# Altium schematic symbol library ElectromagneticPositioning.SCHLIB: 21 symbols
Pins are listed as number, name and electrical type; pins without a type are passive.

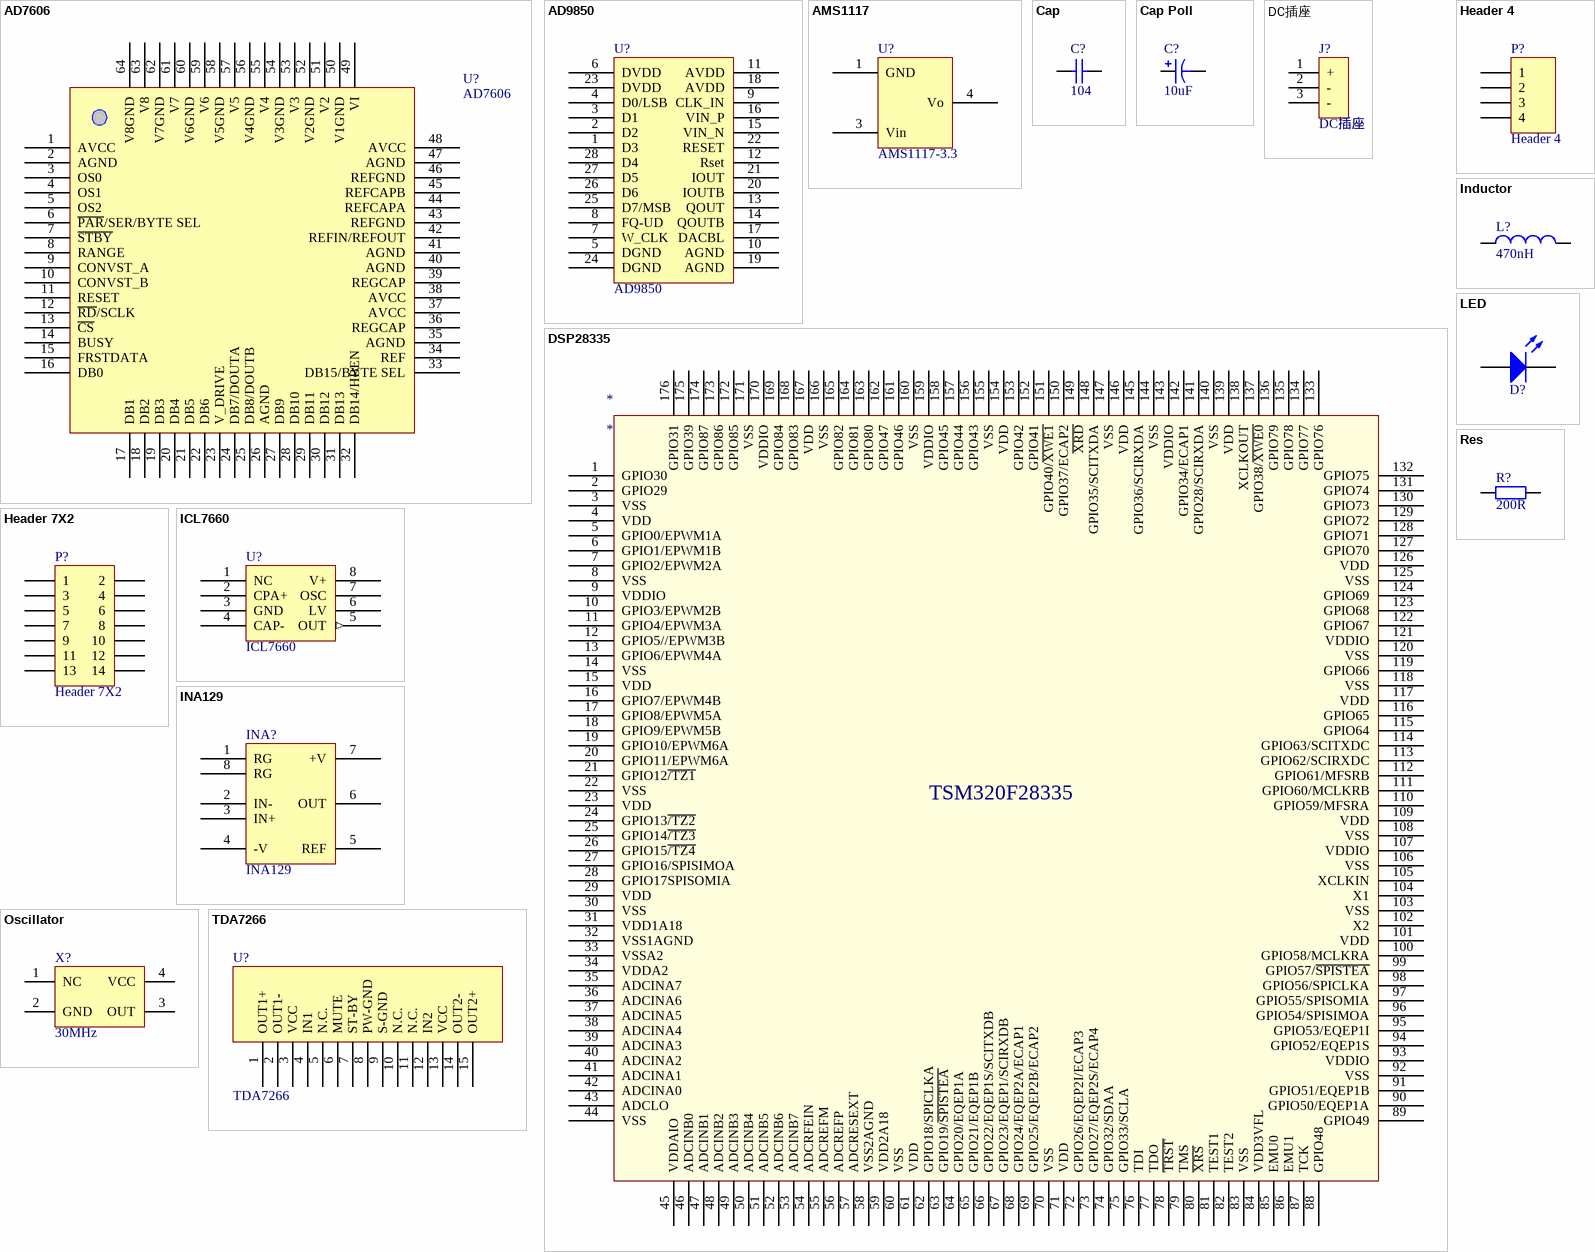
[diagram p0: symbols AD7606 to TDA7266]

## AD7606
designator U?
footprint TSQFP50P1200X1200X160-64N (TSQFP, 64-Leads, Body 10.00x10.00mm, Pitch 0.50mm, IPC Medium Density)
pins: 1 AVCC, 2 AGND, 3 OS0, 4 OS1, 5 OS2, 6 ~{PAR}/SER/BYTE SEL, 7 ~{STBY}, 8 RANGE, 9 CONVST_A, 10 CONVST_B, 11 RESET, 12 ~{RD}/SCLK, 13 ~{CS}, 14 BUSY, 15 FRSTDATA, 16 DB0, 17 DB1, 18 DB2, 19 DB3, 20 DB4, 21 DB5, 22 DB6, 23 V_DRIVE, 24 DB7/DOUTA, 25 DB8/DOUTB, 26 AGND, 27 DB9, 28 DB10, 29 DB11, 30 DB12, 31 DB13, 32 DB14/HBEN, 33 DB15/BYTE SEL, 34 REF, 35 AGND, 36 REGCAP, 37 AVCC, 38 AVCC, 39 REGCAP, 40 AGND, 41 AGND, 42 REFIN/REFOUT, 43 REFGND, 44 REFCAPA, 45 REFCAPB, 46 REFGND, 47 AGND, 48 AVCC, 49 VI, 50 V1GND, 51 V2, 52 V2GND, 53 V3, 54 V3GND, 55 V4, 56 V4GND, 57 V5, 58 V5GND, 59 V6, 60 V6GND, 61 V7, 62 V7GND, 63 V8, 64 V8GND

## AD9850
designator U?
footprint SOP65P780X198-28N (SOP, 28-Leads, Body 10.21x5.29mm, Pitch 0.65mm, IPC Medium Density)
pins: 1 D3, 2 D2, 3 D1, 4 D0/LSB, 5 DGND, 6 DVDD, 7 W_CLK, 8 FQ-UD, 9 CLK_IN, 10 AGND (power), 11 AVDD, 12 Rset, 13 QOUT, 14 QOUTB, 15 VIN_N, 16 VIN_P, 17 DACBL, 18 AVDD, 19 AGND, 20 IOUTB, 21 IOUT, 22 RESET, 23 DVDD, 24 DGND, 25 D7/MSB, 26 D6, 27 D5, 28 D4

## AMS1117
designator U?, comment AMS1117-3.3
footprint SOT223 (SOT223, 4-Leads, Body 6.50x7.00mm (avg), Pitch 2.30mm, IPC Low Density)
footprint TO-252-2L
pins: 1 GND, 3 Vin, 4 Vo

## Cap
designator C?  value 104  (hidden comment: Cap)
原理图绘制者: 刘永钦; 原理图何处使用过: 2014年飞思卡尔底板; 原理图审核人1: 徐鹏飞; 封装0805何处使用: 2015年航行器遥控器; 原理图审核人2: 朱觉文; 封装0603何处使用过: 在2401转接板上使用; Pressure Voltage: 16V; 原理图提供者: 刘永钦; 封装0805绘制者: 刘永钦; 封装0805提供者: 刘永钦; 封装0805审核人1: 徐鹏飞; 封装0805审核人2: 朱觉文; 封装0603绘制者: 刘永钦; 封装0603提供者: 刘永钦; 封装0603审核人1: 朱觉文; 封装0603审核人2: 徐鹏飞
footprint 0805 (Chip Capacitor, 2-Leads, Body 2.0x1.3mm, IPC Medium Density)
footprint 0603
pins: 1, 2

## Cap Poll
designator C?  value 10uF  (hidden comment: Cap Poll)
原理图绘制者: 刘永钦; 原理图何处使用过: 2014年飞思卡尔底板; 原理图审核人1: 徐鹏飞; 封装CAP 钽 7343 E何处使用: 2014年飞思卡尔驱动板; 封装cap贴片铝电解质470uF 16V绘制者: 李泽; 封装cap贴片铝电解质470uF 16V何处使用: 2015年飞思卡尔主板; 封装Cap 3528B绘制者: 陈汉诚; 封装Cap 3528B使用过: 2015年飞思卡尔驱动板; 封装Cap直插 10uF 50V: 10级718学长; 封装Cap直插 10uF 50V使用过: 2012年XS128学习板的主板; 封装Cap 3528B审核人2: 朱觉文; Pressure Voltage: 16V; 原理图提供者: 刘永钦; 封装CAP 钽 7343 E绘制者: 刘永钦; 封装CAP 钽 7343 E提供者: 刘永钦; 封装CAP 钽 7343 E审核人1: 徐鹏飞; 封装cap贴片铝电解质470uF 16V提供者: 刘永钦; 封装cap贴片铝电解质470uF 16V审核人1: 徐鹏飞; 封装Cap 3528B提供者: 刘永钦; 封装Cap 3528B审核人1: 徐鹏飞; 封装Cap直插 10uF 50V提供者: 刘永钦; 封装Cap直插 10uF 50V审核人1: 徐鹏飞; 封装Cap直插 10uF 50V审核人2: 朱觉文; 封装cap贴片铝电解质470uF 16V审核人2: 朱觉文; 封装CAP 钽 7343 E审核人2: 朱觉文; 原理图审核人2: 朱觉文
footprint cap贴片铝电解质470uF 16V (铝电解质 470uF V)
footprint Cap 3528B
footprint Cap直插 10uF 50V
footprint CAP 钽 7343 E (Molded Capacitor, 2-Leads, Body 7.3x4.3mm, IPC Medium Density)
pins: 1, 2

## DC插座
designator J?
原理图审核人2: 朱觉文; 原理图提供者: 刘永钦; 原理图审核人1: 徐鹏飞; 原理图何处使用过: Arduino小车控制板; 原理图绘制者: 刘永钦; 封装DC插座 5.5mm*2.1mm绘制者: 刘永钦; 封装DC插座 5.5mm*2.1mm提供者: 刘永钦; 封装DC插座 5.5mm*2.1mm审核人1: 徐鹏飞; 封装DC插座 5.5mm*2.1mm何处使用过: Arduino小车控制板; 封装DC插座 5.5mm*2.1mm审核人2: 朱觉文
footprint DC插座 5.5mm*2.1mm
pins: 1 + (power), 2 - (power), 3 - (power)

## DSP28335
designator *
pins: 1 GPIO30, 2 GPIO29, 3 VSS, 4 VDD, 5 GPIO0/EPWM1A, 6 GPIO1/EPWM1B, 7 GPIO2/EPWM2A, 8 VSS, 9 VDDIO, 10 GPIO3/EPWM2B, 11 GPIO4/EPWM3A, 12 GPIO5//EPWM3B, 13 GPIO6/EPWM4A, 14 VSS, 15 VDD, 16 GPIO7/EPWM4B, 17 GPIO8/EPWM5A, 18 GPIO9/EPWM5B, 19 GPIO10/EPWM6A, 20 GPIO11/EPWM6A, 21 GPIO12~{/TZ1}, 22 VSS, 23 VDD, 24 GPIO13~{/TZ2}, 25 GPIO14~{/TZ3}, 26 GPIO15~{/TZ4}, 27 GPIO16/SPISIMOA, 28 GPIO17SPISOMIA, 29 VDD, 30 VSS, 31 VDD1A18, 32 VSS1AGND, 33 VSSA2, 34 VDDA2, 35 ADCINA7, 36 ADCINA6, 37 ADCINA5, 38 ADCINA4, 39 ADCINA3, 40 ADCINA2, 41 ADCINA1, 42 ADCINA0, 43 ADCLO, 44 VSS, 45 VDDAIO, 46 ADCINB0, 47 ADCINB1, 48 ADCINB2, 49 ADCINB3, 50 ADCINB4, 51 ADCINB5, 52 ADCINB6, 53 ADCINB7, 54 ADCRFEIN, 55 ADCREFM, 56 ADCREFP, 57 ADCRESEXT, 58 VSS2AGND, 59 VDD2A18, 60 VSS, 61 VDD, 62 GPIO18/SPICLKA, 63 GPIO19/~{SPISTEA}, 64 GPIO20/EQEP1A, 65 GPIO21/EQEP1B, 66 GPIO22/EQEP1S/SCITXDB, 67 GPIO23/EQEP1/SCIRXDB, 68 GPIO24/EQEP2A/ECAP1, 69 GPIO25/EQEP2B/ECAP2, 70 VSS, 71 VDD, 72 GPIO26/EQEP2I/ECAP3, 73 GPIO27/EQEP2S/ECAP4, 74 GPIO32/SDAA, 75 GPIO33/SCLA, 76 TDI, 77 TDO, 78 ~{TRST}, 79 TMS, 80 ~{XRS}, 81 TEST1, 82 TEST2, 83 VSS, 84 VDD3VFL, 85 EMU0, 86 EMU1, 87 TCK, 88 GPIO48, 89 GPIO49, 90 GPIO50/EQEP1A, 91 GPIO51/EQEP1B, 92 VSS, 93 VDDIO, 94 GPIO52/EQEP1S, 95 GPIO53/EQEP1I, 96 GPIO54/SPISIMOA, 97 GPIO55/SPISOMIA, 98 GPIO56/SPICLKA, 99 GPIO57/~{SPI}~{STEA}, 100 GPIO58/MCLKRA, 101 VDD, 102 X2, 103 VSS, 104 X1, 105 XCLKIN, 106 VSS, 107 VDDIO, 108 VSS, 109 VDD, 110 GPIO59/MFSRA, 111 GPIO60/MCLKRB, 112 GPIO61/MFSRB, 113 GPIO62/SCIRXDC, 114 GPIO63/SCITXDC, 115 GPIO64, 116 GPIO65, 117 VDD, 118 VSS, 119 GPIO66, 120 VSS, 121 VDDIO, 122 GPIO67, 123 GPIO68, 124 GPIO69, 125 VSS, 126 VDD, 127 GPIO70, 128 GPIO71, 129 GPIO72, 130 GPIO73, 131 GPIO74, 132 GPIO75, 133 GPIO76, 134 GPIO77, 135 GPIO78, 136 GPIO79, 137 GPIO38/~{XWE0}, 138 XCLKOUT, 139 VDD, 140 VSS, 141 GPIO28/SCIRXDA, 142 GPIO34/ECAP1, 143 VDDIO, 144 VSS, 145 GPIO36/SCIRXDA, 146 VDD, 147 VSS, 148 GPIO35/SCITXDA, 149 ~{XRD}, 150 GPIO37/ECAP2, 151 GPIO40/~{XWE1}, 152 GPIO41, 153 GPIO42, 154 VDD, 155 VSS, 156 GPIO43, 157 GPIO44, 158 GPIO45, 159 VDDIO, 160 VSS, 161 GPIO46, 162 GPIO47, 163 GPIO80, 164 GPIO81, 165 GPIO82, 166 VSS, 167 VDD, 168 GPIO83, 169 GPIO84, 170 VDDIO, 171 VSS, 172 GPIO85, 173 GPIO86, 174 GPIO87, 175 GPIO39, 176 GPIO31
text: TSM320F28335

## Header 4
designator P?
Header, 4-Pin; LatestRevisionDate: 17-Jul-2002; LatestRevisionNote: Re-released for DXP Platform.; Publisher: Altium Limited
footprint HDR1X4 (Connector; Header; 4 Position)
signal-integrity model Connector
pins: 1, 2, 3, 4

## Header 7X2
designator P?
Header, 7-Pin, Dual row; LatestRevisionDate: 17-Jul-2002; LatestRevisionNote: Re-released for DXP Platform.; Publisher: Altium Limited
footprint HDR2X7 (Connector; Header; 7x2 Position)
signal-integrity model Connector
pins: 1, 2, 3, 4, 5, 6, 7, 8, 9, 10, 11, 12, 13, 14

## ICL7660
designator U?
原理图绘制者: 刘永钦; 原理图何处使用过: 2014年飞思卡尔底板; 原理图审核人1: 徐鹏飞; 封装ICL7660 sop-8使用过: 2014年飞思卡尔地板; 原理图审核人2: 朱觉文; 原理图提供者: 刘永钦; 封装ICL7660 sop-8绘制者: 刘永钦; 封装ICL7660 sop-8审核人1: 徐鹏飞; 封装ICL7660 sop-8提供者: 刘永钦; 封装ICL7660 sop-8审核人2: 朱觉文
footprint ICL7660 sop-8
pins: 1 NC, 2 CPA+, 3 GND (power), 4 CAP-, 5 OUT (out), 6 LV, 7 OSC, 8 V+ (power)

## INA129
designator INA?
footprint LM386
pins: 1 RG, 2 IN-, 3 IN+, 4 -V, 5 REF, 6 OUT, 7 +V, 8 RG

## Inductor
designator L?, comment 470nH
footprint 0805L
footprint CDRH127
footprint CDRH104R
footprint SWPA5040S
footprint CDRH74
pins: 1, 2

## LED
designator D?  (value not drawn)
原理图绘制者: 刘永钦; 原理图何处使用过: 2014年飞思卡尔底板; 原理图审核人1: 徐鹏飞; Color: 蓝色; 封装1210LED何处使用过: 2014年的一个小板子; 封装LED_3mm何处使用过: 2014年变频器面板; 封装LED_0805使用过: 2015年飞思卡尔底板; 原理图审核人2: 朱觉文; 封装LED0603何处使用过: 2401转接板; 原理图提供者: 刘永钦; 封装1210LED绘制者: 刘永钦; 封装1210LED提供者: 刘永钦; 封装1210LED审核人1: 徐鹏飞; 封装LED_3mm绘制者: 刘永钦; 封装LED_3mm提供者: 刘永钦; 封装LED_0805绘制者: 刘永钦; 封装LED_0805提供者: 刘永钦; 封装LED_0805审核人1: 徐鹏飞; 封装1210LED审核人2: 朱觉文; 封装LED_0805审核人2: 朱觉文; 封装LED_3mm审核者2: 朱觉文; 封装LED0603绘制者: 刘永钦; 封装LED0603审核人2: 朱觉文; 封装LED0603提供者: 刘永钦; 封装LED0603审核人1: 徐鹏飞
footprint 1210LED
footprint LED_0805
footprint LED_3mm
footprint LED0603
pins: 1 A, 2 K

## Oscillator
designator X?, comment 30MHz
footprint 3225 (3225有源晶振)
pins: 1 NC, 2 GND, 3 OUT, 4 VCC

## Res
designator R?  value 200R  (hidden comment: Res)
原理图绘制者: 刘永钦; 原理图何处使用过: 2014年飞思卡尔底板; 原理图审核人1: 徐鹏飞; 封装0805何处使用过: 2015年航行器遥控器; 原理图审核人2: 朱觉文; 封装2512-RESC6332X06N何处使用过: 在无刷直流电机驱动板上使用过; 封装0603何处使用过: 在2401转接板上使用; 原理图提供者: 刘永钦; 封装0805绘制者: 刘永钦; 封装0805提供者: 刘永钦; 封装0805审核人1: 徐鹏飞; 封装0805审核人2: 朱觉文; 封装0603提供者: 刘永钦; 封装0603审核人2: 朱觉文; 封装0603审核人1: 徐鹏飞; 封装2512-RESC6332X06N审核人2: 朱觉文; 封装2512-RESC6332X06N提供者: 刘永钦; 封装2512-RESC6332X06N审核人1: 徐鹏飞; 封装0603绘制者: 刘永钦; 封装2512-RESC6332X06N绘制者: 刘永钦
footprint 0805 (Chip Capacitor, 2-Leads, Body 2.0x1.3mm, IPC Medium Density)
footprint 1206
footprint 0603
footprint 2512-RESC6332X06N (Chip Resistor, 2-Leads, Body 6.3x3.2mm, IPC Medium Density)
pins: 1, 2

## TDA7266
designator U?
footprint TDA7266
pins: 1 OUT1+, 2 OUT1-, 3 VCC, 4 IN1, 5 N.C., 6 MUTE, 7 ST-BY, 8 PW-GND, 9 S-GND, 10 N.C., 11 N.C., 12 IN2, 13 VCC, 14 OUT2-, 15 OUT2+

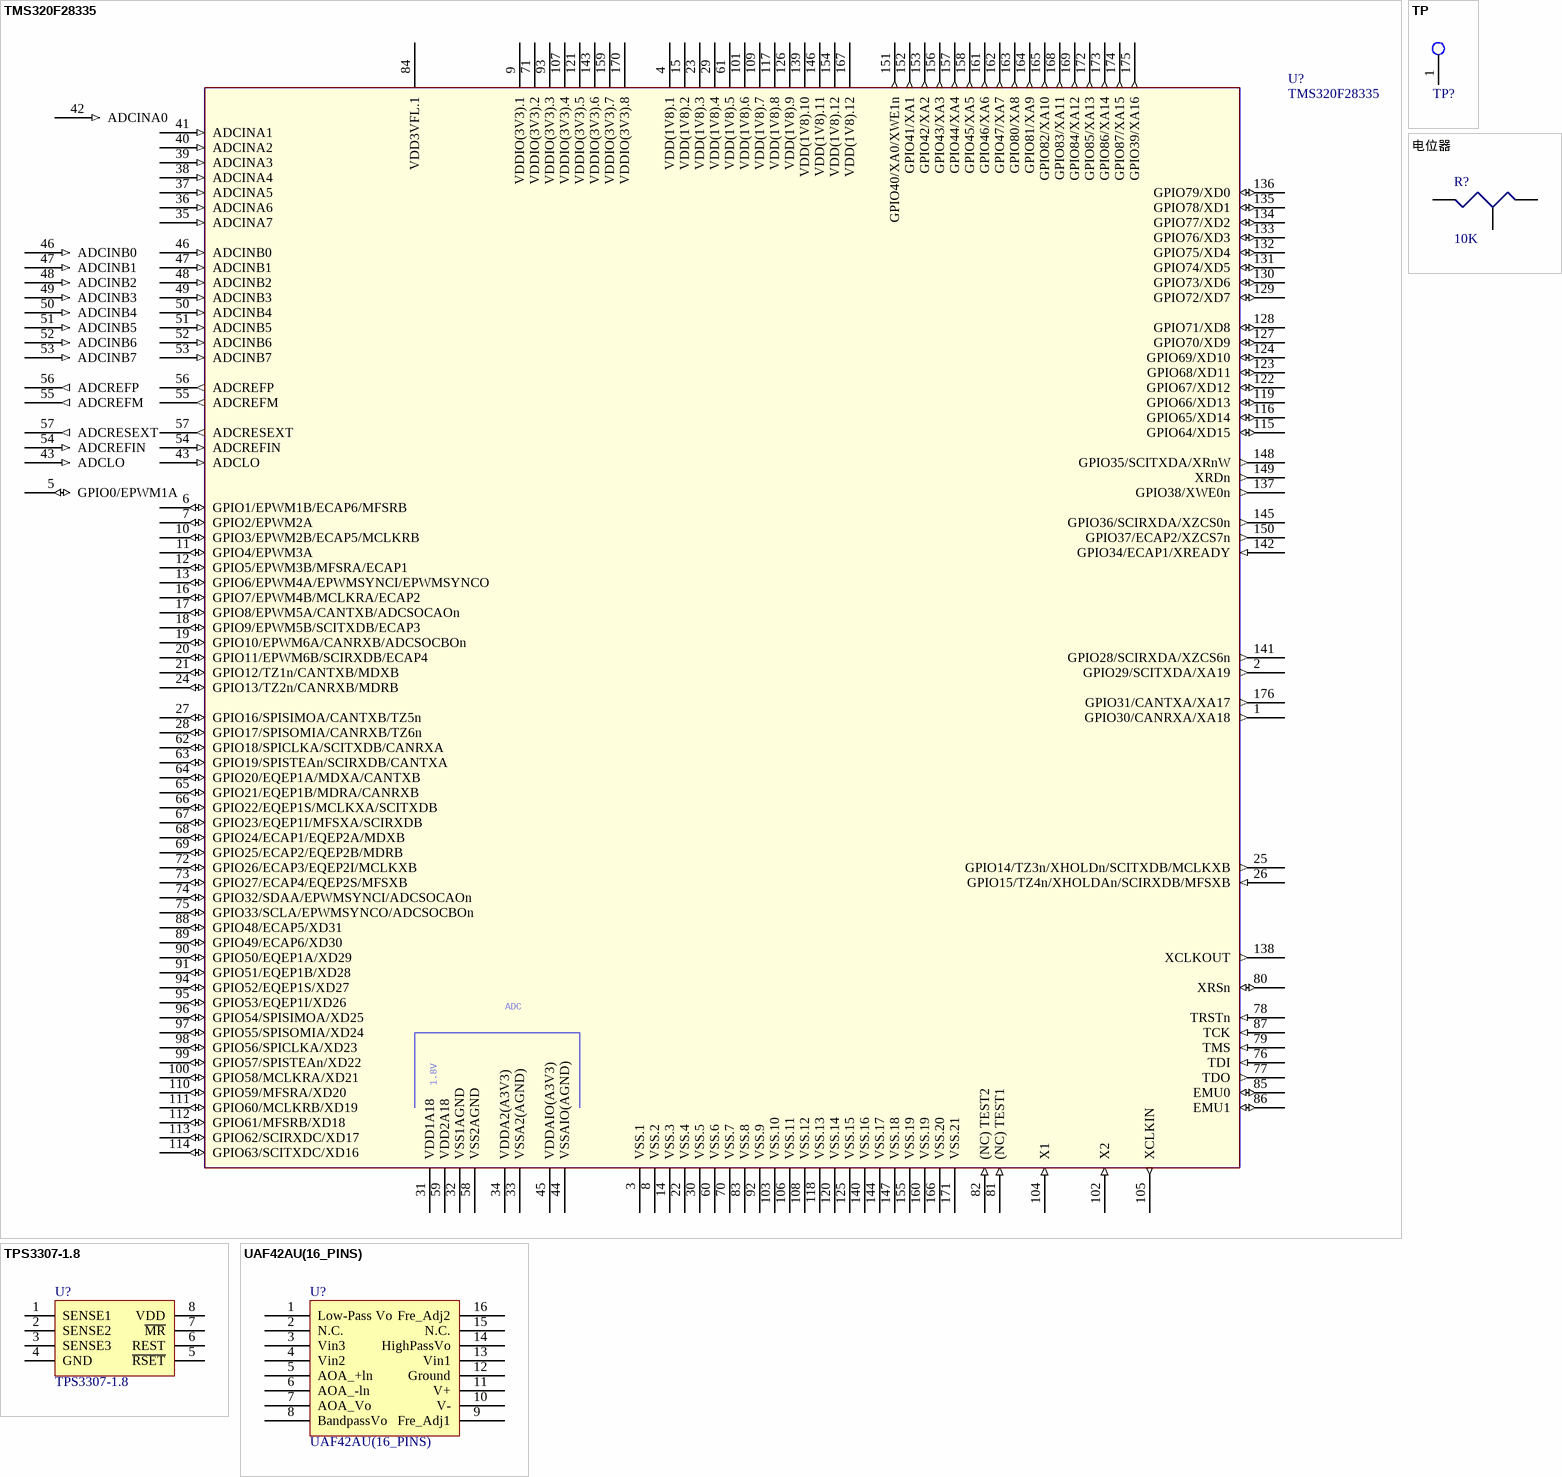
[diagram p1: symbols TMS320F28335 to 电位器]

## TMS320F28335
designator U?
footprint TMS320F28335
pins: 1 GPIO30/CANRXA/XA18 (out), 2 GPIO29/SCITXDA/XA19 (out), 3 VSS.1 (power), 4 VDD(1V8).1 (power), 5 GPIO0/EPWM1A (io), 6 GPIO1/EPWM1B/ECAP6/MFSRB (io), 7 GPIO2/EPWM2A (io), 8 VSS.2 (power), 9 VDDIO(3V3).1 (power), 10 GPIO3/EPWM2B/ECAP5/MCLKRB (io), 11 GPIO4/EPWM3A (io), 12 GPIO5/EPWM3B/MFSRA/ECAP1 (io), 13 GPIO6/EPWM4A/EPWMSYNCI/EPWMSYNCO (io), 14 VSS.3 (power), 15 VDD(1V8).2 (power), 16 GPIO7/EPWM4B/MCLKRA/ECAP2 (io), 17 GPIO8/EPWM5A/CANTXB/ADCSOCAOn (io), 18 GPIO9/EPWM5B/SCITXDB/ECAP3 (io), 19 GPIO10/EPWM6A/CANRXB/ADCSOCBOn (io), 20 GPIO11/EPWM6B/SCIRXDB/ECAP4 (io), 21 GPIO12/TZ1n/CANTXB/MDXB (io), 22 VSS.4 (power), 23 VDD(1V8).3 (power), 24 GPIO13/TZ2n/CANRXB/MDRB (io), 25 GPIO14/TZ3n/XHOLDn/SCITXDB/MCLKXB (out), 26 GPIO15/TZ4n/XHOLDAn/SCIRXDB/MFSXB (in), 27 GPIO16/SPISIMOA/CANTXB/TZ5n (io), 28 GPIO17/SPISOMIA/CANRXB/TZ6n (io), 29 VDD(1V8).4 (power), 30 VSS.5 (power), 31 VDD1A18 (power), 32 VSS1AGND (power), 33 VSSA2(AGND) (power), 34 VDDA2(A3V3) (power), 35 ADCINA7 (in), 36 ADCINA6 (in), 37 ADCINA5 (in), 38 ADCINA4 (in), 39 ADCINA3 (in), 40 ADCINA2 (in), 41 ADCINA1 (in), 42 ADCINA0 (in), 43 ADCLO (in), 43 ADCLO (in), 44 VSSAIO(AGND) (power), 45 VDDAIO(A3V3) (power), 46 ADCINB0 (in), 46 ADCINB0 (in), 47 ADCINB1 (in), 47 ADCINB1 (in), 48 ADCINB2 (in), 48 ADCINB2 (in), 49 ADCINB3 (in), 49 ADCINB3 (in), 50 ADCINB4 (in), 50 ADCINB4 (in), 51 ADCINB5 (in), 51 ADCINB5 (in), 52 ADCINB6 (in), 52 ADCINB6 (in), 53 ADCINB7 (in), 53 ADCINB7 (in), 54 ADCREFIN (in), 54 ADCREFIN (in), 55 ADCREFM (out), 55 ADCREFM (out), 56 ADCREFP (out), 56 ADCREFP (out), 57 ADCRESEXT (out), 57 ADCRESEXT (out), 58 VSS2AGND (power), 59 VDD2A18 (power), 60 VSS.6 (power), 61 VDD(1V8).5 (power), 62 GPIO18/SPICLKA/SCITXDB/CANRXA (io), 63 GPIO19/SPISTEAn/SCIRXDB/CANTXA (io), 64 GPIO20/EQEP1A/MDXA/CANTXB (io), 65 GPIO21/EQEP1B/MDRA/CANRXB (io), 66 GPIO22/EQEP1S/MCLKXA/SCITXDB (io), 67 GPIO23/EQEP1I/MFSXA/SCIRXDB (io), 68 GPIO24/ECAP1/EQEP2A/MDXB (io), 69 GPIO25/ECAP2/EQEP2B/MDRB (io), 70 VSS.7 (power), 71 VDDIO(3V3).2 (power), 72 GPIO26/ECAP3/EQEP2I/MCLKXB (io), 73 GPIO27/ECAP4/EQEP2S/MFSXB (io), 74 GPIO32/SDAA/EPWMSYNCI/ADCSOCAOn (io), 75 GPIO33/SCLA/EPWMSYNCO/ADCSOCBOn (io), 76 TDI (in), 77 TDO (out), 78 TRSTn (in), 79 TMS (in), 80 XRSn (io), 81 (NC) TEST1 (in), 82 (NC) TEST2 (in), 83 VSS.8 (power), 84 VDD3VFL.1 (power), 85 EMU0 (io), 86 EMU1 (io), 87 TCK (in), 88 GPIO48/ECAP5/XD31 (io), 89 GPIO49/ECAP6/XD30 (io), 90 GPIO50/EQEP1A/XD29 (io), 91 GPIO51/EQEP1B/XD28 (io), 92 VSS.9 (power), 93 VDDIO(3V3).3 (power), 94 GPIO52/EQEP1S/XD27 (io), 95 GPIO53/EQEP1I/XD26 (io), 96 GPIO54/SPISIMOA/XD25 (io), 97 GPIO55/SPISOMIA/XD24 (io), 98 GPIO56/SPICLKA/XD23 (io), 99 GPIO57/SPISTEAn/XD22 (io), 100 GPIO58/MCLKRA/XD21 (io), 101 VDD(1V8).6 (power), 102 X2 (in), 103 VSS.10 (power), 104 X1 (in), 105 XCLKIN (out), 106 VSS.11 (power), 107 VDDIO(3V3).4 (power), 108 VSS.12 (power), 109 VDD(1V8).7 (power), 110 GPIO59/MFSRA/XD20 (io), 111 GPIO60/MCLKRB/XD19 (io), 112 GPIO61/MFSRB/XD18 (io), 113 GPIO62/SCIRXDC/XD17 (io), 114 GPIO63/SCITXDC/XD16 (io), 115 GPIO64/XD15 (io), 116 GPIO65/XD14 (io), 117 VDD(1V8).8 (power), 118 VSS.13 (power), 119 GPIO66/XD13 (io), 120 VSS.14 (power), 121 VDDIO(3V3).5 (power), 122 GPIO67/XD12 (io), 123 GPIO68/XD11 (io), 124 GPIO69/XD10 (io), 125 VSS.15 (power), 126 VDD(1V8).9 (power), 127 GPIO70/XD9 (io), 128 GPIO71/XD8 (io), 129 GPIO72/XD7 (io), 130 GPIO73/XD6 (io), 131 GPIO74/XD5 (io), 132 GPIO75/XD4 (io), 133 GPIO76/XD3 (io), 134 GPIO77/XD2 (io), 135 GPIO78/XD1 (io), 136 GPIO79/XD0 (io), 137 GPIO38/XWE0n (out), 138 XCLKOUT (out), 139 VDD(1V8).10 (power), 140 VSS.16 (power), 141 GPIO28/SCIRXDA/XZCS6n (out), 142 GPIO34/ECAP1/XREADY (in), 143 VDDIO(3V3).6 (power), 144 VSS.17 (power), 145 GPIO36/SCIRXDA/XZCS0n (out), 146 VDD(1V8).11 (power), 147 VSS.18 (power), 148 GPIO35/SCITXDA/XRnW (out), 149 XRDn (out), 150 GPIO37/ECAP2/XZCS7n (out), 151 GPIO40/XA0/XWE1n (out), 152 GPIO41/XA1 (out), 153 GPIO42/XA2 (out), 154 VDD(1V8).12 (power), 155 VSS.19 (power), 156 GPIO43/XA3 (out), 157 GPIO44/XA4 (out), 158 GPIO45/XA5 (out), 159 VDDIO(3V3).7 (power), 160 VSS.19 (power), 161 GPIO46/XA6 (out), 162 GPIO47/XA7 (out), 163 GPIO80/XA8 (out), 164 GPIO81/XA9 (out), 165 GPIO82/XA10 (out), 166 VSS.20 (power), 167 VDD(1V8).12 (power), 168 GPIO83/XA11 (out), 169 GPIO84/XA12 (out), 170 VDDIO(3V3).8 (power), 171 VSS.21 (power), 172 GPIO85/XA13 (out), 173 GPIO86/XA14 (out), 174 GPIO87/XA15 (out), 175 GPIO39/XA16 (out), 176 GPIO31/CANTXA/XA17 (out)
text: ADC; 1.8V

## TP
designator TP?, comment testPoint  (value not drawn)
footprint TP_H (测试点-过孔)
footprint TP_S (测试点-表面)
footprint TP_H (测试点-过孔)
pins: 1

## TPS3307-1.8
designator U?
footprint SOP-8
pins: 1 SENSE1, 2 SENSE2, 3 SENSE3, 4 GND, 5 ~{RSET}, 6 REST, 7 ~{MR}, 8 VDD

## UAF42AU(16_PINS)
designator U?
footprint SOIC127P1030X265-16N (SOIC, 16-Leads, Body 10.30x7.50mm, Pitch 1.27mm, IPC Medium Density)
pins: 1 Low-Pass Vo, 2 N.C., 3 Vin3, 4 Vin2, 5 AOA_+ln, 6 AOA_-ln, 7 AOA_Vo, 8 BandpassVo (power), 9 Fre_Adj1, 10 V-, 11 V+, 12 Ground, 13 Vin1, 14 HighPassVo, 15 N.C., 16 Fre_Adj2 (power)

## 电位器
designator R?  value 10K  (hidden comment: 电位器)
原理图绘制者: 刘永钦; 原理图何处使用过: 2014年飞思卡尔底板; 原理图审核人1: 徐鹏飞; 封装电位器WH06-2C使用过: 2014年小板子; 封装电位器 097单联弯脚使用过: 2015年航行器遥控器; 原理图审核人2: 朱觉文; 原理图提供者: 刘永钦; 封装电位器WH06-2C绘制者: 刘永钦; 封装电位器WH06-2C审核人1: 徐鹏飞; 封装电位器WH06-2C提供者: 刘永钦; 封装电位器 097单联弯脚绘制者: 刘永钦; 封装电位器 097单联弯脚提供者: 刘永钦; 封装电位器 097单联弯脚审核人1: 徐鹏飞; 封装电位器 097单联弯脚审核人2: 朱觉文; 封装电位器WH06-2C审核人2: 朱觉文
footprint 电位器 097单联弯脚
footprint 电位器WH06-2C
pins: 1, 2, 3